# EAGLE library part AXE530127 (library library)
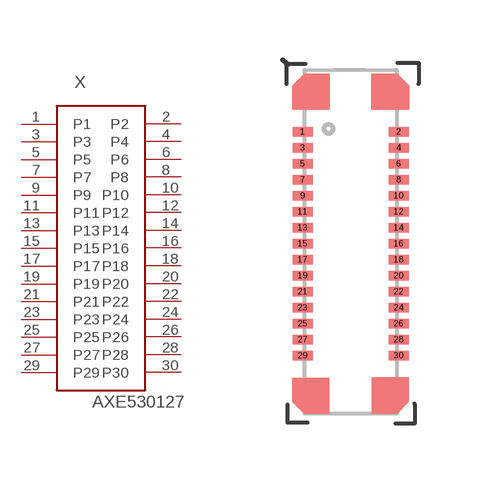
[diagram p1: symbol with the pads of AXE530127; footprint AXE530127]

Designator prefix X

## AXE530127  [AXE530127]
1  P1
2  P2
3  P3
4  P4
5  P5
6  P6
7  P7
8  P8
9  P9
10  P10
11  P11
12  P12
13  P13
14  P14
15  P15
16  P16
17  P17
18  P18
19  P19
20  P20
21  P21
22  P22
23  P23
24  P24
25  P25
26  P26
27  P27
28  P28
29  P29
30  P30

## Footprint AXE530127 (pad centres in mm)
smd 0.5 x 0.23: 1 -1.2,2.8; 2 1.2,2.8; 3 -1.2,2.4; 4 1.2,2.4; 5 -1.2,2; 6 1.2,2; 7 -1.2,1.6; 8 1.2,1.6; 9 -1.2,1.2; 10 1.2,1.2; 11 -1.2,0.8; 12 1.2,0.8; 13 -1.2,0.4; 14 1.2,0.4; 15 -1.2,0; 16 1.2,0; 17 -1.2,-0.4; 18 1.2,-0.4; 19 -1.2,-0.8; 20 1.2,-0.8; 21 -1.2,-1.2; 22 1.2,-1.2; 23 -1.2,-1.6; 24 1.2,-1.6; 25 -1.2,-2; 26 1.2,-2; 27 -1.2,-2.4; 28 1.2,-2.4; 29 -1.2,-2.8; 30 1.2,-2.8